# Altium schematic symbol library rcl.SCHLIB: 164 symbols
Pins are listed as number, name and electrical type; pins without a type are passive.

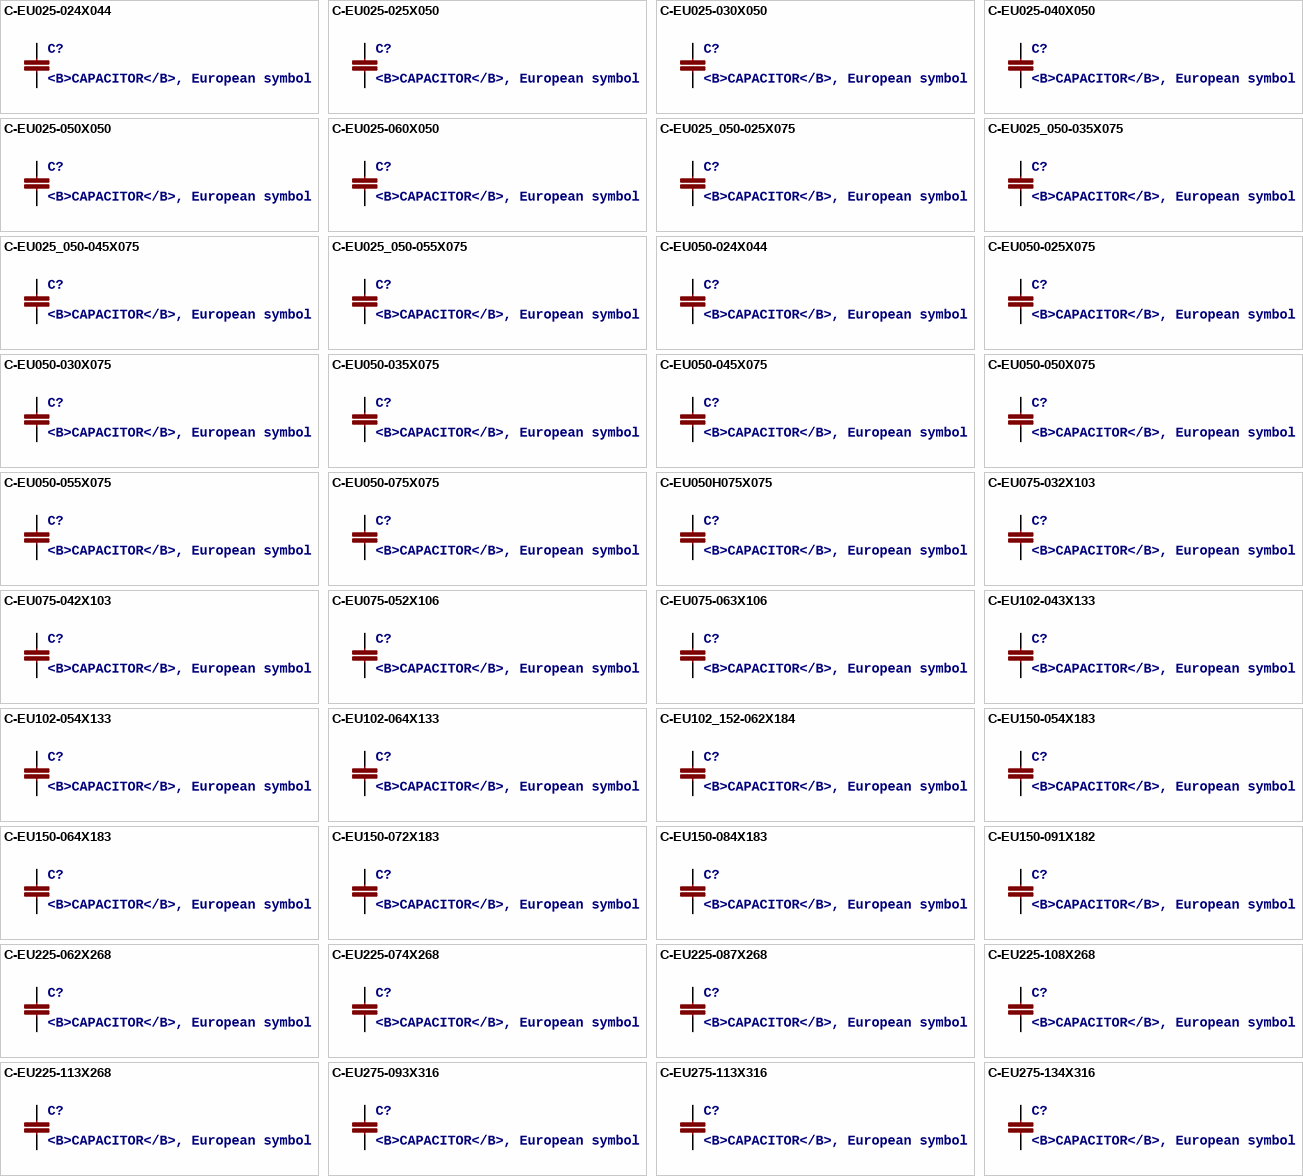
[diagram p0: symbols C-EU025-024X044 to C-EU275-134X316]

## C-EU025-024X044
designator C?, comment <B>CAPACITOR</B>, European symbol
footprint C025-024X044
pins: 1, 2

## C-EU025-025X050
designator C?, comment <B>CAPACITOR</B>, European symbol
footprint C025-025X050
pins: 1, 2

## C-EU025-030X050
designator C?, comment <B>CAPACITOR</B>, European symbol
footprint C025-030X050
pins: 1, 2

## C-EU025-040X050
designator C?, comment <B>CAPACITOR</B>, European symbol
footprint C025-040X050
pins: 1, 2

## C-EU025-050X050
designator C?, comment <B>CAPACITOR</B>, European symbol
footprint C025-050X050
pins: 1, 2

## C-EU025-060X050
designator C?, comment <B>CAPACITOR</B>, European symbol
footprint C025-060X050
pins: 1, 2

## C-EU025_050-025X075
designator C?, comment <B>CAPACITOR</B>, European symbol
footprint C025_050-025X075
pins: 1, 2

## C-EU025_050-035X075
designator C?, comment <B>CAPACITOR</B>, European symbol
footprint C025_050-035X075
pins: 1, 2

## C-EU025_050-045X075
designator C?, comment <B>CAPACITOR</B>, European symbol
footprint C025_050-045X075
pins: 1, 2

## C-EU025_050-055X075
designator C?, comment <B>CAPACITOR</B>, European symbol
footprint C025_050-055X075
pins: 1, 2

## C-EU050-024X044
designator C?, comment <B>CAPACITOR</B>, European symbol
footprint C050-024X044
pins: 1, 2

## C-EU050-025X075
designator C?, comment <B>CAPACITOR</B>, European symbol
footprint C050-025X075
pins: 1, 2

## C-EU050-030X075
designator C?, comment <B>CAPACITOR</B>, European symbol
footprint C050-030X075
pins: 1, 2

## C-EU050-035X075
designator C?, comment <B>CAPACITOR</B>, European symbol
footprint C050-035X075
pins: 1, 2

## C-EU050-045X075
designator C?, comment <B>CAPACITOR</B>, European symbol
footprint C050-045X075
pins: 1, 2

## C-EU050-050X075
designator C?, comment <B>CAPACITOR</B>, European symbol
footprint C050-050X075
pins: 1, 2

## C-EU050-055X075
designator C?, comment <B>CAPACITOR</B>, European symbol
footprint C050-055X075
pins: 1, 2

## C-EU050-075X075
designator C?, comment <B>CAPACITOR</B>, European symbol
footprint C050-075X075
pins: 1, 2

## C-EU050H075X075
designator C?, comment <B>CAPACITOR</B>, European symbol
footprint C050H075X075
pins: 1, 2

## C-EU075-032X103
designator C?, comment <B>CAPACITOR</B>, European symbol
footprint C075-032X103
pins: 1, 2

## C-EU075-042X103
designator C?, comment <B>CAPACITOR</B>, European symbol
footprint C075-042X103
pins: 1, 2

## C-EU075-052X106
designator C?, comment <B>CAPACITOR</B>, European symbol
footprint C075-052X106
pins: 1, 2

## C-EU075-063X106
designator C?, comment <B>CAPACITOR</B>, European symbol
footprint C075-063X106
pins: 1, 2

## C-EU102-043X133
designator C?, comment <B>CAPACITOR</B>, European symbol
footprint C102-043X133
pins: 1, 2

## C-EU102-054X133
designator C?, comment <B>CAPACITOR</B>, European symbol
footprint C102-054X133
pins: 1, 2

## C-EU102-064X133
designator C?, comment <B>CAPACITOR</B>, European symbol
footprint C102-064X133
pins: 1, 2

## C-EU102_152-062X184
designator C?, comment <B>CAPACITOR</B>, European symbol
footprint C102_152-062X184
pins: 1, 2

## C-EU150-054X183
designator C?, comment <B>CAPACITOR</B>, European symbol
footprint C150-054X183
pins: 1, 2

## C-EU150-064X183
designator C?, comment <B>CAPACITOR</B>, European symbol
footprint C150-064X183
pins: 1, 2

## C-EU150-072X183
designator C?, comment <B>CAPACITOR</B>, European symbol
footprint C150-072X183
pins: 1, 2

## C-EU150-084X183
designator C?, comment <B>CAPACITOR</B>, European symbol
footprint C150-084X183
pins: 1, 2

## C-EU150-091X182
designator C?, comment <B>CAPACITOR</B>, European symbol
footprint C150-091X182
pins: 1, 2

## C-EU225-062X268
designator C?, comment <B>CAPACITOR</B>, European symbol
footprint C225-062X268
pins: 1, 2

## C-EU225-074X268
designator C?, comment <B>CAPACITOR</B>, European symbol
footprint C225-074X268
pins: 1, 2

## C-EU225-087X268
designator C?, comment <B>CAPACITOR</B>, European symbol
footprint C225-087X268
pins: 1, 2

## C-EU225-108X268
designator C?, comment <B>CAPACITOR</B>, European symbol
footprint C225-108X268
pins: 1, 2

## C-EU225-113X268
designator C?, comment <B>CAPACITOR</B>, European symbol
footprint C225-113X268
pins: 1, 2

## C-EU275-093X316
designator C?, comment <B>CAPACITOR</B>, European symbol
footprint C275-093X316
pins: 1, 2

## C-EU275-113X316
designator C?, comment <B>CAPACITOR</B>, European symbol
footprint C275-113X316
pins: 1, 2

## C-EU275-134X316
designator C?, comment <B>CAPACITOR</B>, European symbol
footprint C275-134X316
pins: 1, 2

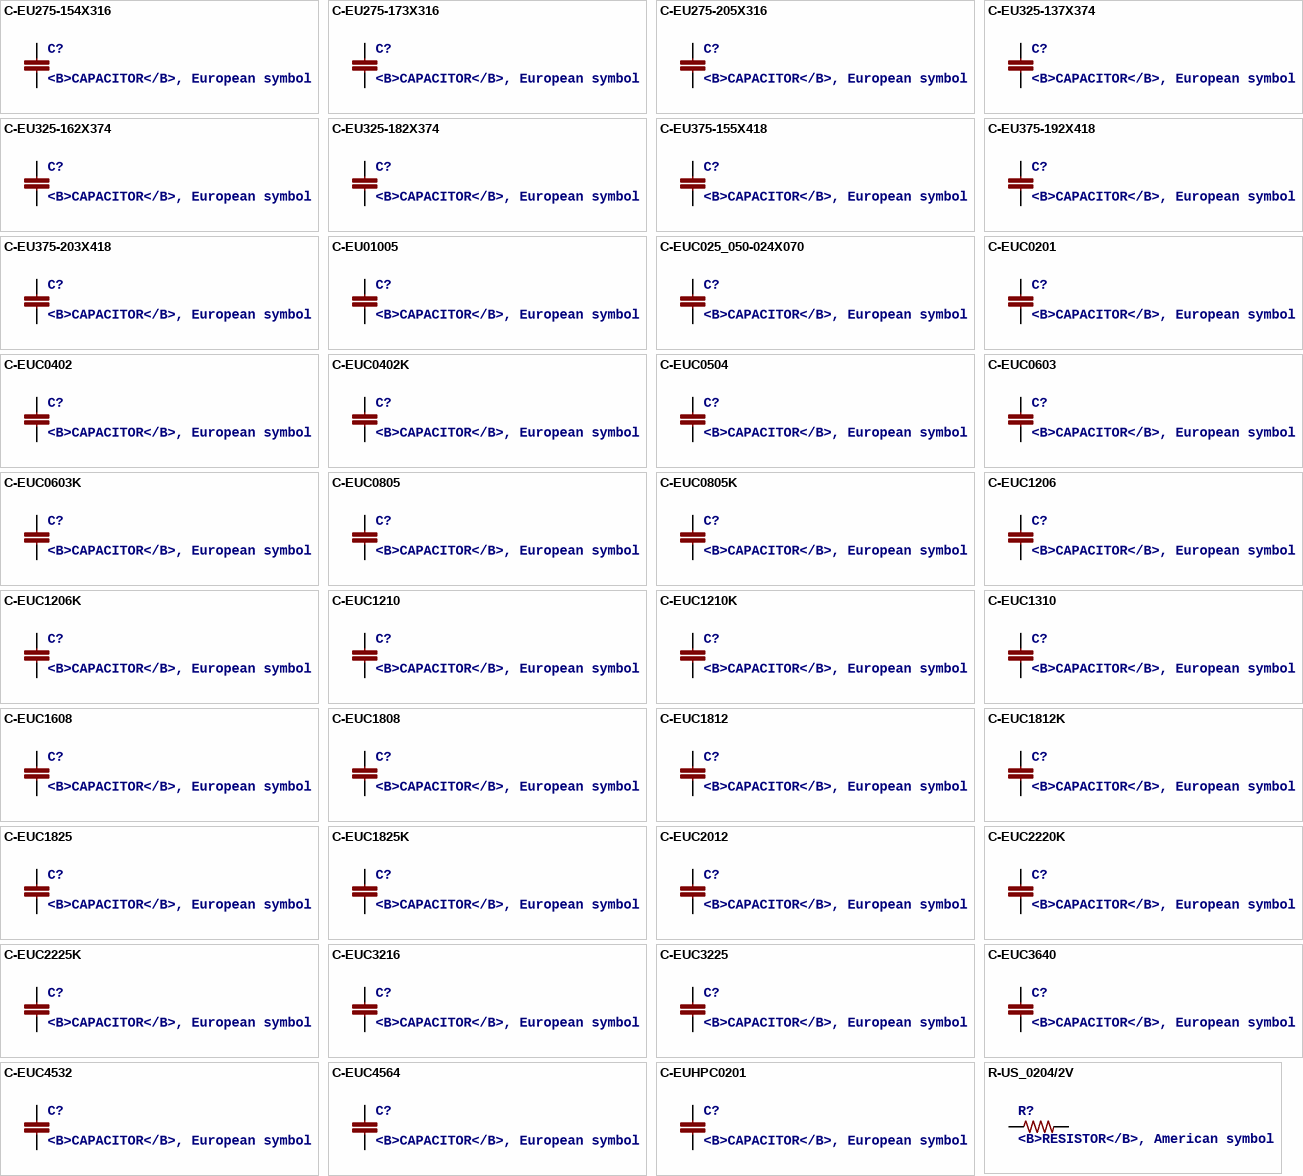
[diagram p1: symbols C-EU275-154X316 to R-US_0204/2V]

## C-EU275-154X316
designator C?, comment <B>CAPACITOR</B>, European symbol
footprint C275-154X316
pins: 1, 2

## C-EU275-173X316
designator C?, comment <B>CAPACITOR</B>, European symbol
footprint C275-173X316
pins: 1, 2

## C-EU275-205X316
designator C?, comment <B>CAPACITOR</B>, European symbol
footprint C275-205X316
pins: 1, 2

## C-EU325-137X374
designator C?, comment <B>CAPACITOR</B>, European symbol
footprint C325-137X374
pins: 1, 2

## C-EU325-162X374
designator C?, comment <B>CAPACITOR</B>, European symbol
footprint C325-162X374
pins: 1, 2

## C-EU325-182X374
designator C?, comment <B>CAPACITOR</B>, European symbol
footprint C325-182X374
pins: 1, 2

## C-EU375-155X418
designator C?, comment <B>CAPACITOR</B>, European symbol
footprint C375-155X418
pins: 1, 2

## C-EU375-192X418
designator C?, comment <B>CAPACITOR</B>, European symbol
footprint C375-192X418
pins: 1, 2

## C-EU375-203X418
designator C?, comment <B>CAPACITOR</B>, European symbol
footprint C375-203X418
pins: 1, 2

## C-EU01005
designator C?, comment <B>CAPACITOR</B>, European symbol
footprint C01005
pins: 1, 2

## C-EUC025_050-024X070
designator C?, comment <B>CAPACITOR</B>, European symbol
footprint C025_050-024X070
pins: 1, 2

## C-EUC0201
designator C?, comment <B>CAPACITOR</B>, European symbol
footprint C0201
pins: 1, 2

## C-EUC0402
designator C?, comment <B>CAPACITOR</B>, European symbol
footprint C0402
pins: 1, 2

## C-EUC0402K
designator C?, comment <B>CAPACITOR</B>, European symbol
footprint C0402K
pins: 1, 2

## C-EUC0504
designator C?, comment <B>CAPACITOR</B>, European symbol
footprint C0504
pins: 1, 2

## C-EUC0603
designator C?, comment <B>CAPACITOR</B>, European symbol
footprint C0603
pins: 1, 2

## C-EUC0603K
designator C?, comment <B>CAPACITOR</B>, European symbol
footprint C0603K
pins: 1, 2

## C-EUC0805
designator C?, comment <B>CAPACITOR</B>, European symbol
footprint C0805
pins: 1, 2

## C-EUC0805K
designator C?, comment <B>CAPACITOR</B>, European symbol
footprint C0805K
pins: 1, 2

## C-EUC1206
designator C?, comment <B>CAPACITOR</B>, European symbol
footprint C1206
pins: 1, 2

## C-EUC1206K
designator C?, comment <B>CAPACITOR</B>, European symbol
footprint C1206K
pins: 1, 2

## C-EUC1210
designator C?, comment <B>CAPACITOR</B>, European symbol
footprint C1210
pins: 1, 2

## C-EUC1210K
designator C?, comment <B>CAPACITOR</B>, European symbol
footprint C1210K
pins: 1, 2

## C-EUC1310
designator C?, comment <B>CAPACITOR</B>, European symbol
footprint C1310
pins: 1, 2

## C-EUC1608
designator C?, comment <B>CAPACITOR</B>, European symbol
footprint C1608
pins: 1, 2

## C-EUC1808
designator C?, comment <B>CAPACITOR</B>, European symbol
footprint C1808
pins: 1, 2

## C-EUC1812
designator C?, comment <B>CAPACITOR</B>, European symbol
footprint C1812
pins: 1, 2

## C-EUC1812K
designator C?, comment <B>CAPACITOR</B>, European symbol
footprint C1812K
pins: 1, 2

## C-EUC1825
designator C?, comment <B>CAPACITOR</B>, European symbol
footprint C1825
pins: 1, 2

## C-EUC1825K
designator C?, comment <B>CAPACITOR</B>, European symbol
footprint C1825K
pins: 1, 2

## C-EUC2012
designator C?, comment <B>CAPACITOR</B>, European symbol
footprint C2012
pins: 1, 2

## C-EUC2220K
designator C?, comment <B>CAPACITOR</B>, European symbol
footprint C2220K
pins: 1, 2

## C-EUC2225K
designator C?, comment <B>CAPACITOR</B>, European symbol
footprint C2225K
pins: 1, 2

## C-EUC3216
designator C?, comment <B>CAPACITOR</B>, European symbol
footprint C3216
pins: 1, 2

## C-EUC3225
designator C?, comment <B>CAPACITOR</B>, European symbol
footprint C3225
pins: 1, 2

## C-EUC3640
designator C?, comment <B>CAPACITOR</B>, European symbol
footprint C3640
pins: 1, 2

## C-EUC4532
designator C?, comment <B>CAPACITOR</B>, European symbol
footprint C4532
pins: 1, 2

## C-EUC4564
designator C?, comment <B>CAPACITOR</B>, European symbol
footprint C4564
pins: 1, 2

## C-EUHPC0201
designator C?, comment <B>CAPACITOR</B>, European symbol
footprint HPC0201
pins: 1, 2

## R-US_0204/2V
designator R?, comment <B>RESISTOR</B>, American symbol
footprint 0204V
pins: 1, 2

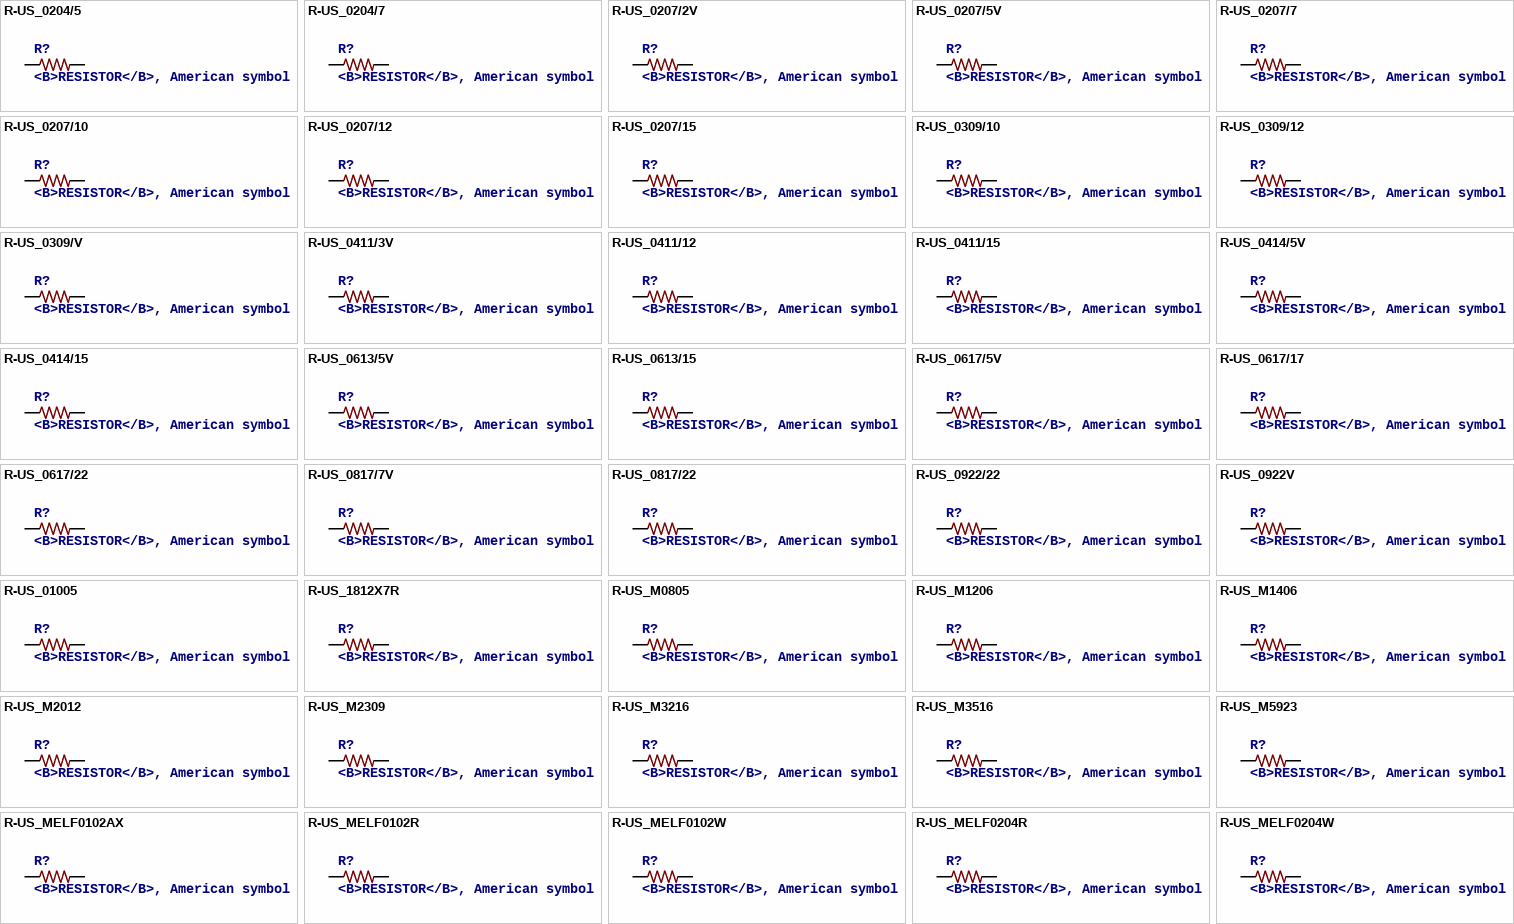
[diagram p2: symbols R-US_0204/5 to R-US_MELF0204W]

## R-US_0204/5
designator R?, comment <B>RESISTOR</B>, American symbol
footprint 0204/5
pins: 1, 2

## R-US_0204/7
designator R?, comment <B>RESISTOR</B>, American symbol
footprint 0204/7
pins: 1, 2

## R-US_0207/2V
designator R?, comment <B>RESISTOR</B>, American symbol
footprint 0207/2V
pins: 1, 2

## R-US_0207/5V
designator R?, comment <B>RESISTOR</B>, American symbol
footprint 0207/5V
pins: 1, 2

## R-US_0207/7
designator R?, comment <B>RESISTOR</B>, American symbol
footprint 0207/7
pins: 1, 2

## R-US_0207/10
designator R?, comment <B>RESISTOR</B>, American symbol
footprint 0207/10
pins: 1, 2

## R-US_0207/12
designator R?, comment <B>RESISTOR</B>, American symbol
footprint 0207/12
pins: 1, 2

## R-US_0207/15
designator R?, comment <B>RESISTOR</B>, American symbol
footprint 0207/15
pins: 1, 2

## R-US_0309/10
designator R?, comment <B>RESISTOR</B>, American symbol
footprint 0309/10
pins: 1, 2

## R-US_0309/12
designator R?, comment <B>RESISTOR</B>, American symbol
footprint 0309/12
pins: 1, 2

## R-US_0309/V
designator R?, comment <B>RESISTOR</B>, American symbol
footprint 0309V
pins: 1, 2

## R-US_0411/3V
designator R?, comment <B>RESISTOR</B>, American symbol
footprint 0411V
pins: 1, 2

## R-US_0411/12
designator R?, comment <B>RESISTOR</B>, American symbol
footprint 0411/12
pins: 1, 2

## R-US_0411/15
designator R?, comment <B>RESISTOR</B>, American symbol
footprint 0411/15
pins: 1, 2

## R-US_0414/5V
designator R?, comment <B>RESISTOR</B>, American symbol
footprint 0414V
pins: 1, 2

## R-US_0414/15
designator R?, comment <B>RESISTOR</B>, American symbol
footprint 0414/15
pins: 1, 2

## R-US_0613/5V
designator R?, comment <B>RESISTOR</B>, American symbol
footprint P0613V
pins: 1, 2

## R-US_0613/15
designator R?, comment <B>RESISTOR</B>, American symbol
footprint P0613/15
pins: 1, 2

## R-US_0617/5V
designator R?, comment <B>RESISTOR</B>, American symbol
footprint 0617V
pins: 1, 2

## R-US_0617/17
designator R?, comment <B>RESISTOR</B>, American symbol
footprint 0617/17
pins: 1, 2

## R-US_0617/22
designator R?, comment <B>RESISTOR</B>, American symbol
footprint 0617/22
pins: 1, 2

## R-US_0817/7V
designator R?, comment <B>RESISTOR</B>, American symbol
footprint P0817V
pins: 1, 2

## R-US_0817/22
designator R?, comment <B>RESISTOR</B>, American symbol
footprint P0817/22
pins: 1, 2

## R-US_0922/22
designator R?, comment <B>RESISTOR</B>, American symbol
footprint 0922/22
pins: 1, 2

## R-US_0922V
designator R?, comment <B>RESISTOR</B>, American symbol
footprint 0922V
pins: 1, 2

## R-US_01005
designator R?, comment <B>RESISTOR</B>, American symbol
footprint R01005
pins: 1, 2

## R-US_1812X7R
designator R?, comment <B>RESISTOR</B>, American symbol
footprint 1812X7R
pins: 1, 2

## R-US_M0805
designator R?, comment <B>RESISTOR</B>, American symbol
footprint M0805
pins: 1, 2

## R-US_M1206
designator R?, comment <B>RESISTOR</B>, American symbol
footprint M1206
pins: 1, 2

## R-US_M1406
designator R?, comment <B>RESISTOR</B>, American symbol
footprint M1406
pins: 1, 2

## R-US_M2012
designator R?, comment <B>RESISTOR</B>, American symbol
footprint M2012
pins: 1, 2

## R-US_M2309
designator R?, comment <B>RESISTOR</B>, American symbol
footprint M2309
pins: 1, 2

## R-US_M3216
designator R?, comment <B>RESISTOR</B>, American symbol
footprint M3216
pins: 1, 2

## R-US_M3516
designator R?, comment <B>RESISTOR</B>, American symbol
footprint M3516
pins: 1, 2

## R-US_M5923
designator R?, comment <B>RESISTOR</B>, American symbol
footprint M5923
pins: 1, 2

## R-US_MELF0102AX
designator R?, comment <B>RESISTOR</B>, American symbol
footprint MINI_MELF-0102AX
pins: 1, 2

## R-US_MELF0102R
designator R?, comment <B>RESISTOR</B>, American symbol
footprint MINI_MELF-0102R
pins: 1, 2

## R-US_MELF0102W
designator R?, comment <B>RESISTOR</B>, American symbol
footprint MINI_MELF-0102W
pins: 1, 2

## R-US_MELF0204R
designator R?, comment <B>RESISTOR</B>, American symbol
footprint MINI_MELF-0204R
pins: 1, 2

## R-US_MELF0204W
designator R?, comment <B>RESISTOR</B>, American symbol
footprint MINI_MELF-0204W
pins: 1, 2

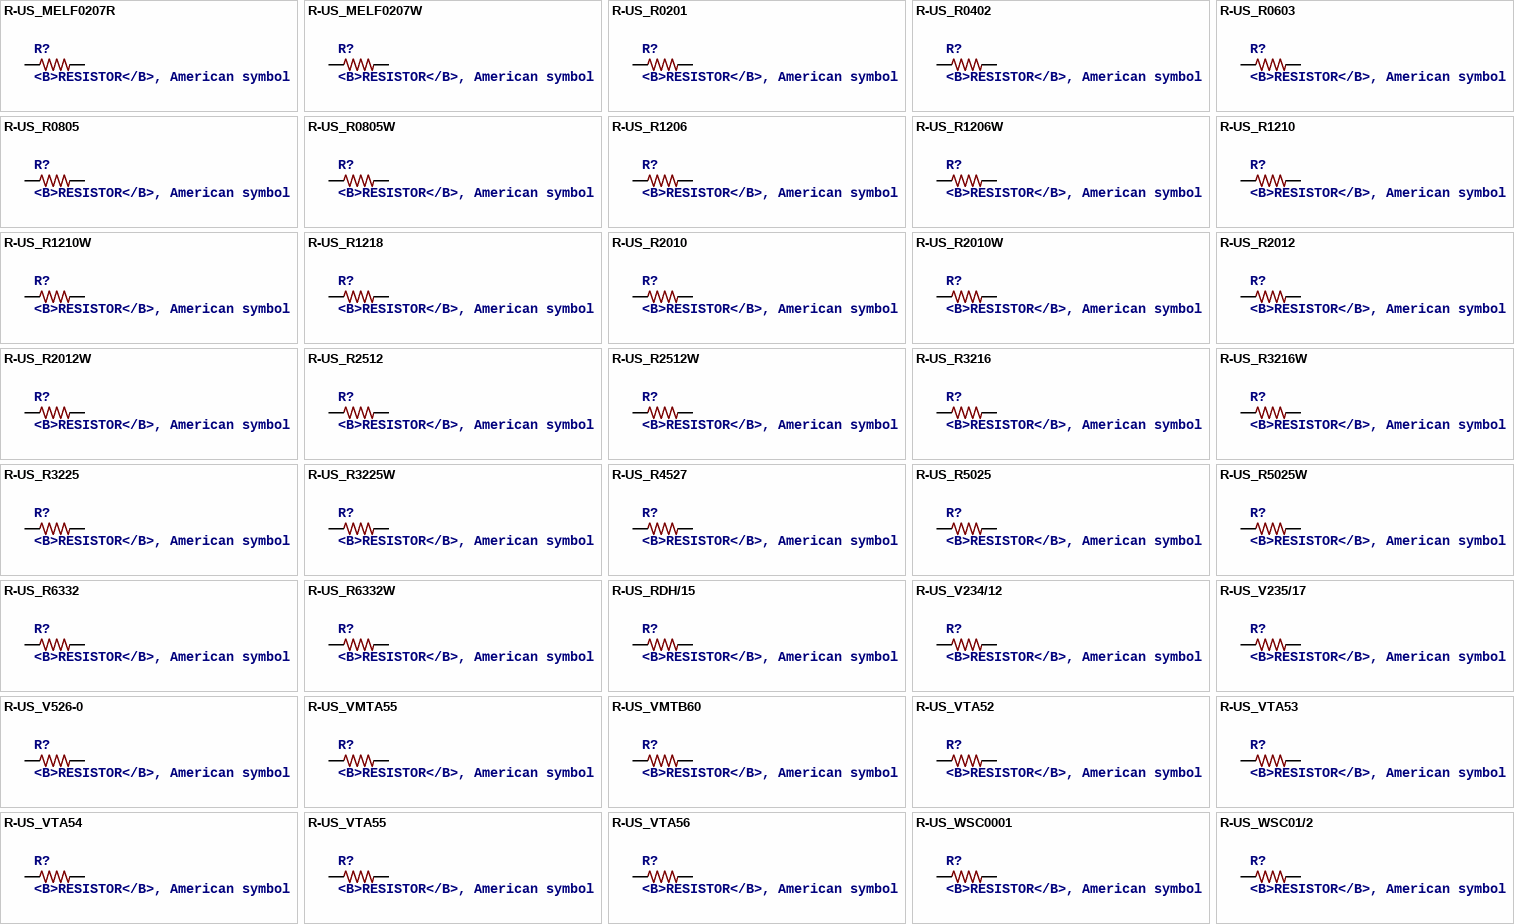
[diagram p3: symbols R-US_MELF0207R to R-US_WSC01/2]

## R-US_MELF0207R
designator R?, comment <B>RESISTOR</B>, American symbol
footprint MINI_MELF-0207R
pins: 1, 2

## R-US_MELF0207W
designator R?, comment <B>RESISTOR</B>, American symbol
footprint MINI_MELF-0207W
pins: 1, 2

## R-US_R0201
designator R?, comment <B>RESISTOR</B>, American symbol
footprint R0201
pins: 1, 2

## R-US_R0402
designator R?, comment <B>RESISTOR</B>, American symbol
footprint R0402
pins: 1, 2

## R-US_R0603
designator R?, comment <B>RESISTOR</B>, American symbol
footprint R0603
pins: 1, 2

## R-US_R0805
designator R?, comment <B>RESISTOR</B>, American symbol
footprint R0805
pins: 1, 2

## R-US_R0805W
designator R?, comment <B>RESISTOR</B>, American symbol
footprint R0805W
pins: 1, 2

## R-US_R1206
designator R?, comment <B>RESISTOR</B>, American symbol
footprint R1206
pins: 1, 2

## R-US_R1206W
designator R?, comment <B>RESISTOR</B>, American symbol
footprint R1206W
pins: 1, 2

## R-US_R1210
designator R?, comment <B>RESISTOR</B>, American symbol
footprint R1210
pins: 1, 2

## R-US_R1210W
designator R?, comment <B>RESISTOR</B>, American symbol
footprint R1210W
pins: 1, 2

## R-US_R1218
designator R?, comment <B>RESISTOR</B>, American symbol
footprint R1218
pins: 1, 2

## R-US_R2010
designator R?, comment <B>RESISTOR</B>, American symbol
footprint R2010
pins: 1, 2

## R-US_R2010W
designator R?, comment <B>RESISTOR</B>, American symbol
footprint R2010W
pins: 1, 2

## R-US_R2012
designator R?, comment <B>RESISTOR</B>, American symbol
footprint R2012
pins: 1, 2

## R-US_R2012W
designator R?, comment <B>RESISTOR</B>, American symbol
footprint R2012W
pins: 1, 2

## R-US_R2512
designator R?, comment <B>RESISTOR</B>, American symbol
footprint R2512
pins: 1, 2

## R-US_R2512W
designator R?, comment <B>RESISTOR</B>, American symbol
footprint R2512W
pins: 1, 2

## R-US_R3216
designator R?, comment <B>RESISTOR</B>, American symbol
footprint R3216
pins: 1, 2

## R-US_R3216W
designator R?, comment <B>RESISTOR</B>, American symbol
footprint R3216W
pins: 1, 2

## R-US_R3225
designator R?, comment <B>RESISTOR</B>, American symbol
footprint R3225
pins: 1, 2

## R-US_R3225W
designator R?, comment <B>RESISTOR</B>, American symbol
footprint R3225W
pins: 1, 2

## R-US_R4527
designator R?, comment <B>RESISTOR</B>, American symbol
footprint R4527
pins: 1, 2

## R-US_R5025
designator R?, comment <B>RESISTOR</B>, American symbol
footprint R5025
pins: 1, 2

## R-US_R5025W
designator R?, comment <B>RESISTOR</B>, American symbol
footprint R5025W
pins: 1, 2

## R-US_R6332
designator R?, comment <B>RESISTOR</B>, American symbol
footprint R6332
pins: 1, 2

## R-US_R6332W
designator R?, comment <B>RESISTOR</B>, American symbol
footprint R6332W
pins: 1, 2

## R-US_RDH/15
designator R?, comment <B>RESISTOR</B>, American symbol
footprint RDH/15
pins: 1, 2

## R-US_V234/12
designator R?, comment <B>RESISTOR</B>, American symbol
footprint V234/12
pins: 1, 2

## R-US_V235/17
designator R?, comment <B>RESISTOR</B>, American symbol
footprint V235/17
pins: 1, 2

## R-US_V526-0
designator R?, comment <B>RESISTOR</B>, American symbol
footprint V526-0
pins: 1, 2

## R-US_VMTA55
designator R?, comment <B>RESISTOR</B>, American symbol
footprint VMTA55
pins: 1, 2

## R-US_VMTB60
designator R?, comment <B>RESISTOR</B>, American symbol
footprint VMTB60
pins: 1, 2

## R-US_VTA52
designator R?, comment <B>RESISTOR</B>, American symbol
footprint VTA52
pins: 1, 2

## R-US_VTA53
designator R?, comment <B>RESISTOR</B>, American symbol
footprint VTA53
pins: 1, 2

## R-US_VTA54
designator R?, comment <B>RESISTOR</B>, American symbol
footprint VTA54
pins: 1, 2

## R-US_VTA55
designator R?, comment <B>RESISTOR</B>, American symbol
footprint VTA55
pins: 1, 2

## R-US_VTA56
designator R?, comment <B>RESISTOR</B>, American symbol
footprint VTA56
pins: 1, 2

## R-US_WSC0001
designator R?, comment <B>RESISTOR</B>, American symbol
footprint WSC0001
pins: 1, 2

## R-US_WSC01/2
designator R?, comment <B>RESISTOR</B>, American symbol
footprint WSC01/2
pins: 1, 2

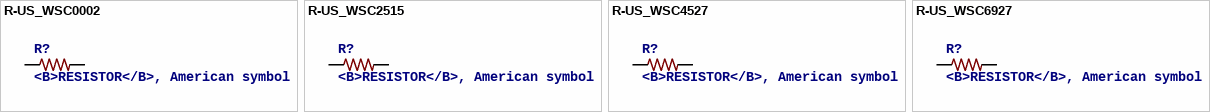
[diagram p4: symbols R-US_WSC0002 to R-US_WSC6927]

## R-US_WSC0002
designator R?, comment <B>RESISTOR</B>, American symbol
footprint WSC0002
pins: 1, 2

## R-US_WSC2515
designator R?, comment <B>RESISTOR</B>, American symbol
footprint WSC2515
pins: 1, 2

## R-US_WSC4527
designator R?, comment <B>RESISTOR</B>, American symbol
footprint WSC4527
pins: 1, 2

## R-US_WSC6927
designator R?, comment <B>RESISTOR</B>, American symbol
footprint WSC6927
pins: 1, 2